# EAGLE library part LTC6240CS8PBF (library LTC6240CS8PBF)
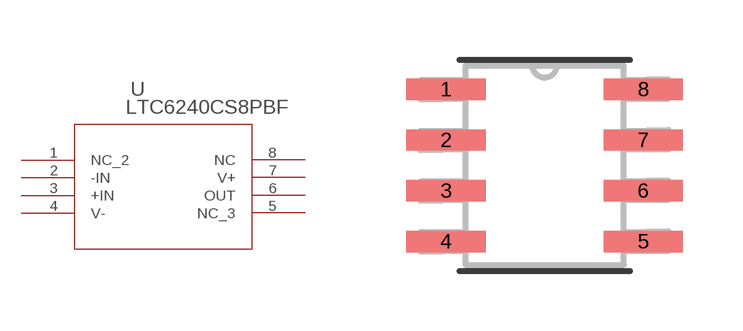
[diagram p0: symbol with the pads of SO-8_S; footprint SO-8_S]

Designator prefix U

## LTC6240CS8PBF (Description: LTC6240 Op Amp CMOS R-R SOICN-8; Digi-Key_Part_Number: LTC6240CS8#PBF-ND; Digi-Key_Purchase_URL: https://www.digikey.ca/product-detail/en/linear-technology-analog-devices/LTC6240CS8-PBF/LTC6240CS8-PBF-ND/1468505?WT.z_cid=ref_snapeda&utm_source=snapeda&utm_medium=aggregator&utm_campaign=buynow; MF: Linear Technology; MP: LTC6240CS8#PBF; Package: SOIC-8 Linear Technology)  [SO-8_S]
1  NC_2  nc
2  -IN  in
3  +IN  in
4  V-  pwr
5  NC_3  nc
6  OUT  out
7  V+  pwr
8  NC  nc

## Footprint SO-8_S (pad centres in mm)
smd 1.981 x 0.533: 1 -2.464,1.905; 2 -2.464,0.635; 3 -2.464,-0.635; 4 -2.464,-1.905; 5 2.464,-1.905; 6 2.464,-0.635; 7 2.464,0.635; 8 2.464,1.905